# Altium footprint library PCB - RF MODULE - ESPRESSIF ESP32-C3-MINI-1.PcbLib: 1 footprints
Each footprint in its own frame and in the unit in brackets; x right, y up, seen from the top. Pads: shape width x height; smd on the part's side, far side on the other; paste and mask are expansions set on the pad; w line width, h text height; cw(c..) or ccw(c..) is an arc to the next point about the centre after c.
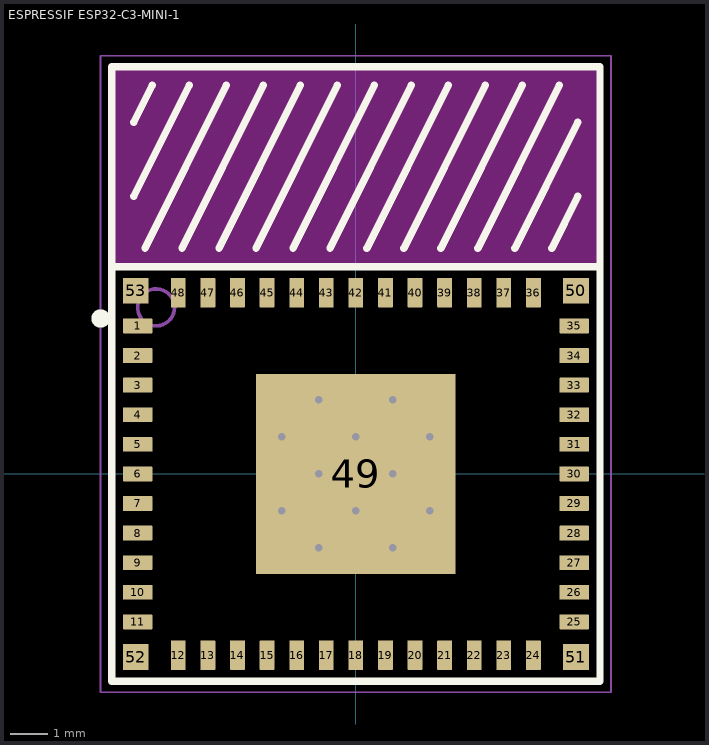
[diagram p0: the footprint, top view; thin cyan lines are the x and y axes]

## ESPRESSIF ESP32-C3-MINI-1 [mm] "53-SMD Module"
height 2.4
pads (53):
  rrect10% 0.8x0.4 smd: 1(-5.9,4) 2(-5.9,3.2) 3(-5.9,2.4) 4(-5.9,1.6) 5(-5.9,0.8) 6(-5.9,0) 7(-5.9,-0.8) 8(-5.9,-1.6) 9(-5.9,-2.4) 10(-5.9,-3.2) 11(-5.9,-4) 25(5.9,-4) 26(5.9,-3.2) 27(5.9,-2.4) 28(5.9,-1.6) 29(5.9,-0.8) 30(5.9,0) 31(5.9,0.8) 32(5.9,1.6) 33(5.9,2.4) 34(5.9,3.2) 35(5.9,4)
  rrect10% 0.4x0.8 smd: 12(-4.8,-4.9) 13(-4,-4.9) 14(-3.2,-4.9) 15(-2.4,-4.9) 16(-1.6,-4.9) 17(-0.8,-4.9) 18(0,-4.9) 19(0.8,-4.9) 20(1.6,-4.9) 21(2.4,-4.9) 22(3.2,-4.9) 23(4,-4.9) 24(4.8,-4.9) 36(4.8,4.9) 37(4,4.9) 38(3.2,4.9) 39(2.4,4.9) 40(1.6,4.9) 41(0.8,4.9) 42(0,4.9) 43(-0.8,4.9) 44(-1.6,4.9) 45(-2.4,4.9) 46(-3.2,4.9) 47(-4,4.9) 48(-4.8,4.9)
  rect 5.4x5.4 smd paste-2539.97 mask+0.102: 49(0,0)
  rect 0.7x0.7 smd: 50(5.95,4.95) 51(5.95,-4.95) 52(-5.95,-4.95) 53(-5.95,4.95)
via -1,2 diameter 0.4 hole 0.2
via 1,2 diameter 0.4 hole 0.2
via 1,-2 diameter 0.4 hole 0.2
via -1,-2 diameter 0.4 hole 0.2
via -2,-1 diameter 0.4 hole 0.2
via 2,-1 diameter 0.4 hole 0.2
via 2,1 diameter 0.4 hole 0.2
via -2,1 diameter 0.4 hole 0.2
via -1,0 diameter 0.4 hole 0.2
via 0,-1 diameter 0.4 hole 0.2
via 0,1 diameter 0.4 hole 0.2
via 1,0 diameter 0.4 hole 0.2
Top Layer keep-out:
  region: -6.6,11 6.6,11 6.6,5.6 -6.6,5.6
Top Overlay:
  circle w0.3: c-6.9,4.2 r0.1
  lines w0.2: -6.6,5.6 6.6,5.6 ; -6,7.5 -4.5,10.5 ; -6,9.5 -5.5,10.5 ; -5.7,6.1 -3.5,10.5 ; -4.7,6.1 -2.5,10.5 ; -3.7,6.1 -1.5,10.5 ; -2.7,6.1 -0.5,10.5 ; -1.7,6.1 0.5,10.5 ; -0.7,6.1 1.5,10.5 ; 0.3,6.1 2.5,10.5 ; 1.3,6.1 3.5,10.5 ; 2.3,6.1 4.5,10.5 ; 3.3,6.1 5.5,10.5 ; 4.3,6.1 6,9.5 ; 5.3,6.1 6,7.5 ; -6.6,-5.6 -6.6,11 6.6,11 6.6,-5.6 -6.6,-5.6
Top Paste:
  region: 0.7,1.25 0.7,2.7 -0.75,2.7 -0.75,1.25
  region: -0.75,-1.25 -0.75,-2.7 0.7,-2.7 0.7,-1.25
  region: -1.25,0.75 -2.7,0.75 -2.7,-0.7 -1.25,-0.7
  rectangle: 1.25,-0.7 2.7,0.75
  rectangle: 1.25,-2.7 2.7,-1.25
  region: -1.25,-1.25 -2.7,-1.25 -2.7,-2.7 -1.25,-2.7
  region: -1.25,2.7 -2.7,2.7 -2.7,1.25 -1.25,1.25
  rectangle: 1.25,1.25 2.7,2.7
  rectangle: -0.725,-0.725 0.725,0.725
Top Solder:
  region: 0.7,1.25 0.7,2.7 -0.75,2.7 -0.75,1.25
  region: -0.75,-1.25 -0.75,-2.7 0.7,-2.7 0.7,-1.25
  region: -1.25,0.75 -2.7,0.75 -2.7,-0.7 -1.25,-0.7
  rectangle: 1.25,-0.7 2.7,0.75
  rectangle: 1.25,-2.7 2.7,-1.25
  region: -1.25,-1.25 -2.7,-1.25 -2.7,-2.7 -1.25,-2.7
  region: -1.25,2.7 -2.7,2.7 -2.7,1.25 -1.25,1.25
  rectangle: 1.25,1.25 2.7,2.7
  rectangle: -0.725,-0.725 0.725,0.725
Mechanical 13:
  circle w0.1: c-5.4,4.5 r0.5
  lines w0.1: -6.6,-5.6 6.6,-5.6 6.6,11 -6.6,11 -6.6,-5.6
Mechanical 15:
  lines w0.05: -6.9,-5.9 -6.9,11.3 6.9,11.3 6.9,-5.9 -6.9,-5.9
3D body "Espressif - ESP32-C3-MINI-1.step": height 2.55, standoff 0, extent -6.6,-5.6 6.6,11